# EAGLE library part DEVLAB_A_MIKROBUS (library UNIT_Biblioteca_Modulos)
Plantilla adaptada de formato Mikrobus a Devlab Propietario: UNIT Electronics Desarrollador: Gerardo Ruvalcaba
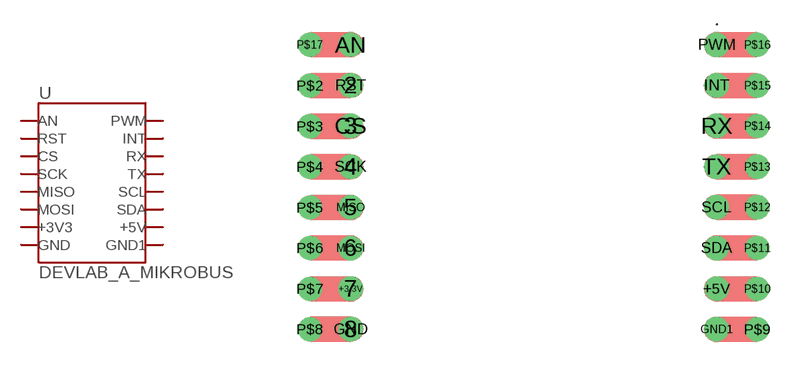
[diagram p35: symbol with the pads of MIKROBUS_CASTELLATED; footprint MIKROBUS_CASTELLATED]

Designator prefix U

## DEVLAB_A_MIKROBUS (CLASS: Modules; DESCRIPTION: mikroBUS)  [MIKROBUS_CASTELLATED]
2  RST
3  CS
4  SCK
5  MISO
6  MOSI
7  +3V3
8  GND
+3.3V  +3V3
+5V  +5V
AN  AN
CS  CS
GND  GND
GND1  GND1
INT  INT
MISO  MISO
MOSI  MOSI
P$2  RST
P$3  CS
P$4  SCK
P$5  MISO
P$6  MOSI
P$7  +3V3
P$8  GND
P$9  GND1
P$10  +5V
P$11  SDA
P$12  SCL
P$13  TX
P$14  RX
P$15  INT
P$16  PWM
P$17  AN
PWM  PWM
RST  RST
RX  RX
SCK  SCK
SCL  SCL
SDA  SDA
TX  TX

## Footprint MIKROBUS_CASTELLATED (pad centres in mm)
drill 1 pad 0.254: 2 -11.425,6.037; 3 -11.425,3.498; 4 -11.425,0.958; 5 -11.425,-1.583; 6 -11.425,-4.122; 7 -11.425,-6.662; 8 -11.425,-9.203; +5V 11.43,-6.665; AN -11.43,8.575; P$2 -13.97,6.027; P$3 -13.97,3.478; P$4 -13.97,0.953; P$5 -13.97,-1.597; P$6 -13.97,-4.122; P$7 -13.97,-6.673; P$8 -13.97,-9.197; P$9 13.97,-9.203; P$10 13.97,-6.678; P$11 13.97,-4.128; P$12 13.97,-1.577; P$13 13.97,0.948; P$14 13.97,3.498; P$15 13.97,6.022; P$16 13.97,8.572; P$17 -13.97,8.575
drill 1.02: +3.3V -11.43,-6.665; CS -11.43,3.495; GND -11.43,-9.205; GND1 11.43,-9.205; INT 11.43,6.035; MISO -11.43,-1.585; MOSI -11.43,-4.125; PWM 11.43,8.575; RST -11.43,6.035; RX 11.43,3.495; SCK -11.43,0.955; SCL 11.43,-1.585; SDA 11.43,-4.125; TX 11.43,0.955